# Altium footprint library led-smd.PcbLib: 5 footprints
Each footprint in its own frame and in the unit in brackets; x right, y up, seen from the top. Pads: shape width x height; smd on the part's side, far side on the other; paste and mask are expansions set on the pad; w line width, h text height; cw(c..) or ccw(c..) is an arc to the next point about the centre after c.
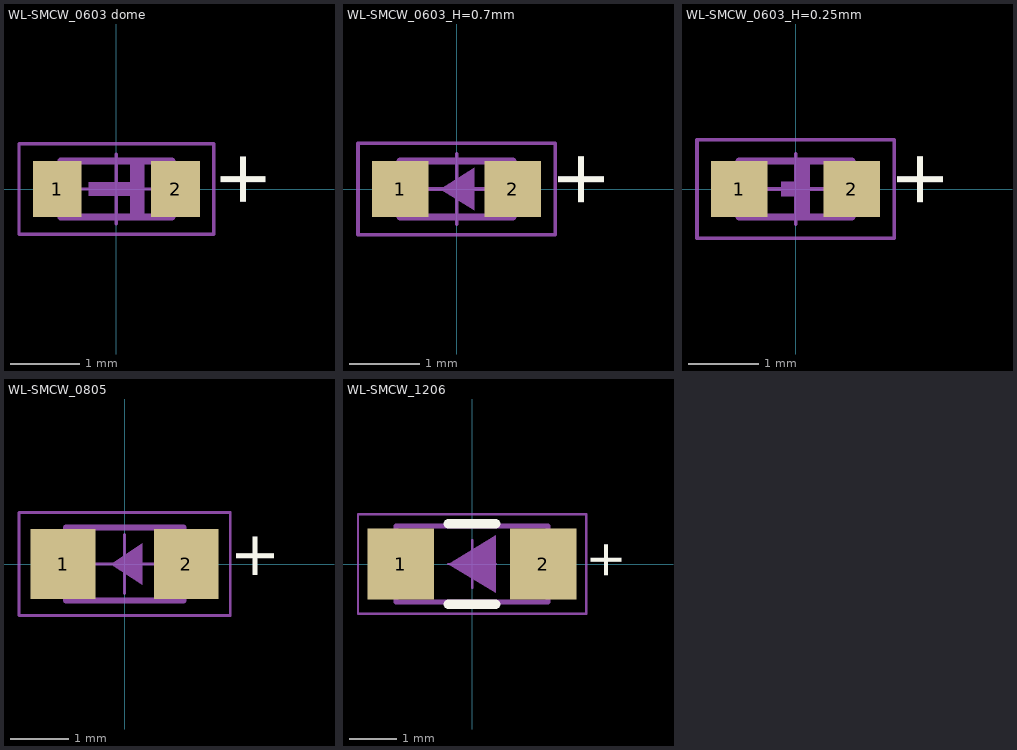
[diagram p0: the footprints below, top view; thin cyan lines are the x and y axes]

## WL-SMCW_0603 dome [mm] "SMD Mono-color Chip LED, body 1.6x0.8mm"
height 0.95
pads (2):
  rect 0.7x0.8 smd: 1(-0.85,0) 2(0.85,0)
Top Overlay:
  text "+" at 2.15,-0.3 h0.76
Mechanical 13:
  region: 0.4,0.4 0.4,-0.4 0.2,-0.4 0.2,-0.1 -0.4,-0.1 -0.4,0.1 0.2,0.1 0.2,0.4
  lines w0.1: -0.8,-0.4 -0.8,0.4 0.8,0.4 0.8,-0.4 -0.8,-0.4
Mechanical 15:
  lines w0.05: -0.5,0 0.5,0 ; 0,-0.5 0,0.5 ; -1.4,-0.65 -1.4,0.65 1.4,0.65 1.4,-0.65 -1.4,-0.65
3D body "150060xx86000.stp": height 0.95, standoff 0, extent -0.8,-0.4 0.8,0.4

## WL-SMCW_0603_H=0.7mm [mm] "SMD Mono-color Chip LED, body 1.6x0.8mm"
height 0.7
pads (2):
  rect 0.8x0.8 smd: 1(-0.8,0) 2(0.8,0)
Top Overlay:
  text "+" at 2.1,-0.3 h0.76
Mechanical 13:
  region: -0.233,0 0.25,-0.3 0.25,0.3
  lines w0.1: -0.8,-0.4 -0.8,0.4 0.8,0.4 0.8,-0.4 -0.8,-0.4
Mechanical 15:
  lines w0.05: -0.5,0 0.5,0 ; 0,-0.5 0,0.5 ; -1.4,-0.65 -1.4,0.65 1.4,0.65 1.4,-0.65 -1.4,-0.65
3D body "150060xxx.stp": height 0.7, standoff 0, extent -0.8,-0.4 0.8,0.4

## WL-SMCW_0603_H=0.25mm [mm] "SMD Mono-color Chip LED, body 1.6x0.8mm"
height 0.25
pads (2):
  rect 0.8x0.8 smd: 1(-0.8,0) 2(0.8,0)
Top Overlay:
  text "+" at 2.1,-0.3 h0.76
Mechanical 13:
  region: 0.2,0.4 0.2,-0.4 0,-0.4 0,-0.1 -0.2,-0.1 -0.2,0.1 0,0.1 0,0.4
  lines w0.1: -0.8,-0.4 -0.8,0.4 0.8,0.4 0.8,-0.4 -0.8,-0.4
Mechanical 15:
  lines w0.05: -0.5,0 0.5,0 ; 0,-0.5 0,0.5 ; -1.4,-0.7 -1.4,0.7 1.4,0.7 1.4,-0.7 -1.4,-0.7
3D body "150060xx75020.stp": height 0.25, standoff 0, extent -0.8,-0.4 0.8,0.4

## WL-SMCW_0805 [mm] "SMD Mono-color Chip LED, body 2.0x1.25mm"
height 0.7
pads (2):
  rect 1.1x1.2 smd: 1(-1.05,0) 2(1.05,0)
Top Overlay:
  text "+" at 2.55,-0.3 h0.76
Mechanical 13:
  region: -0.233,0 0.3,-0.35 0.3,0.35
  lines w0.1: -1,-0.625 1,-0.625 1,0.625 -1,0.625 -1,-0.625
Mechanical 15:
  lines w0.05: -0.5,0 0.5,0 ; 0,-0.5 0,0.5 ; -1.8,-0.875 1.8,-0.875 1.8,0.875 -1.8,0.875 -1.8,-0.875
3D body "150080xS75000.stp": height 0.7, standoff 0, extent -1,-0.625 1,0.625

## WL-SMCW_1206 [mm] "SMD Mono-color Chip LED, body 3.2x1.6mm"
height 0.68
pads (2):
  rect 1.4x1.5 smd: 1(-1.5,0) 2(1.5,0)
Top Overlay:
  lines w0.2: -0.5,-0.85 0.5,-0.85 ; -0.5,0.85 0.5,0.85
  text "+" at 3.15,-0.35 h0.76
Mechanical 13:
  region: -0.5,0 0.5,-0.6 0.5,0 0.5,0.6
  lines w0.1: -1.6,-0.8 -1.6,0.8 1.6,0.8 1.6,-0.8 -1.6,-0.8
Mechanical 15:
  lines w0.05: -0.5,0 0.5,0 ; 0,-0.5 0,0.5 ; -2.4,-1.05 2.4,-1.05 2.4,1.05 -2.4,1.05 -2.4,-1.05
3D body "150120xS75000.stp": height 0.68, standoff 0, extent -1.6,-0.8 1.6,0.8